# Altium integrated library Silicon Labs Isolation and Power.IntLib: 421 symbols (part 4 of 19)
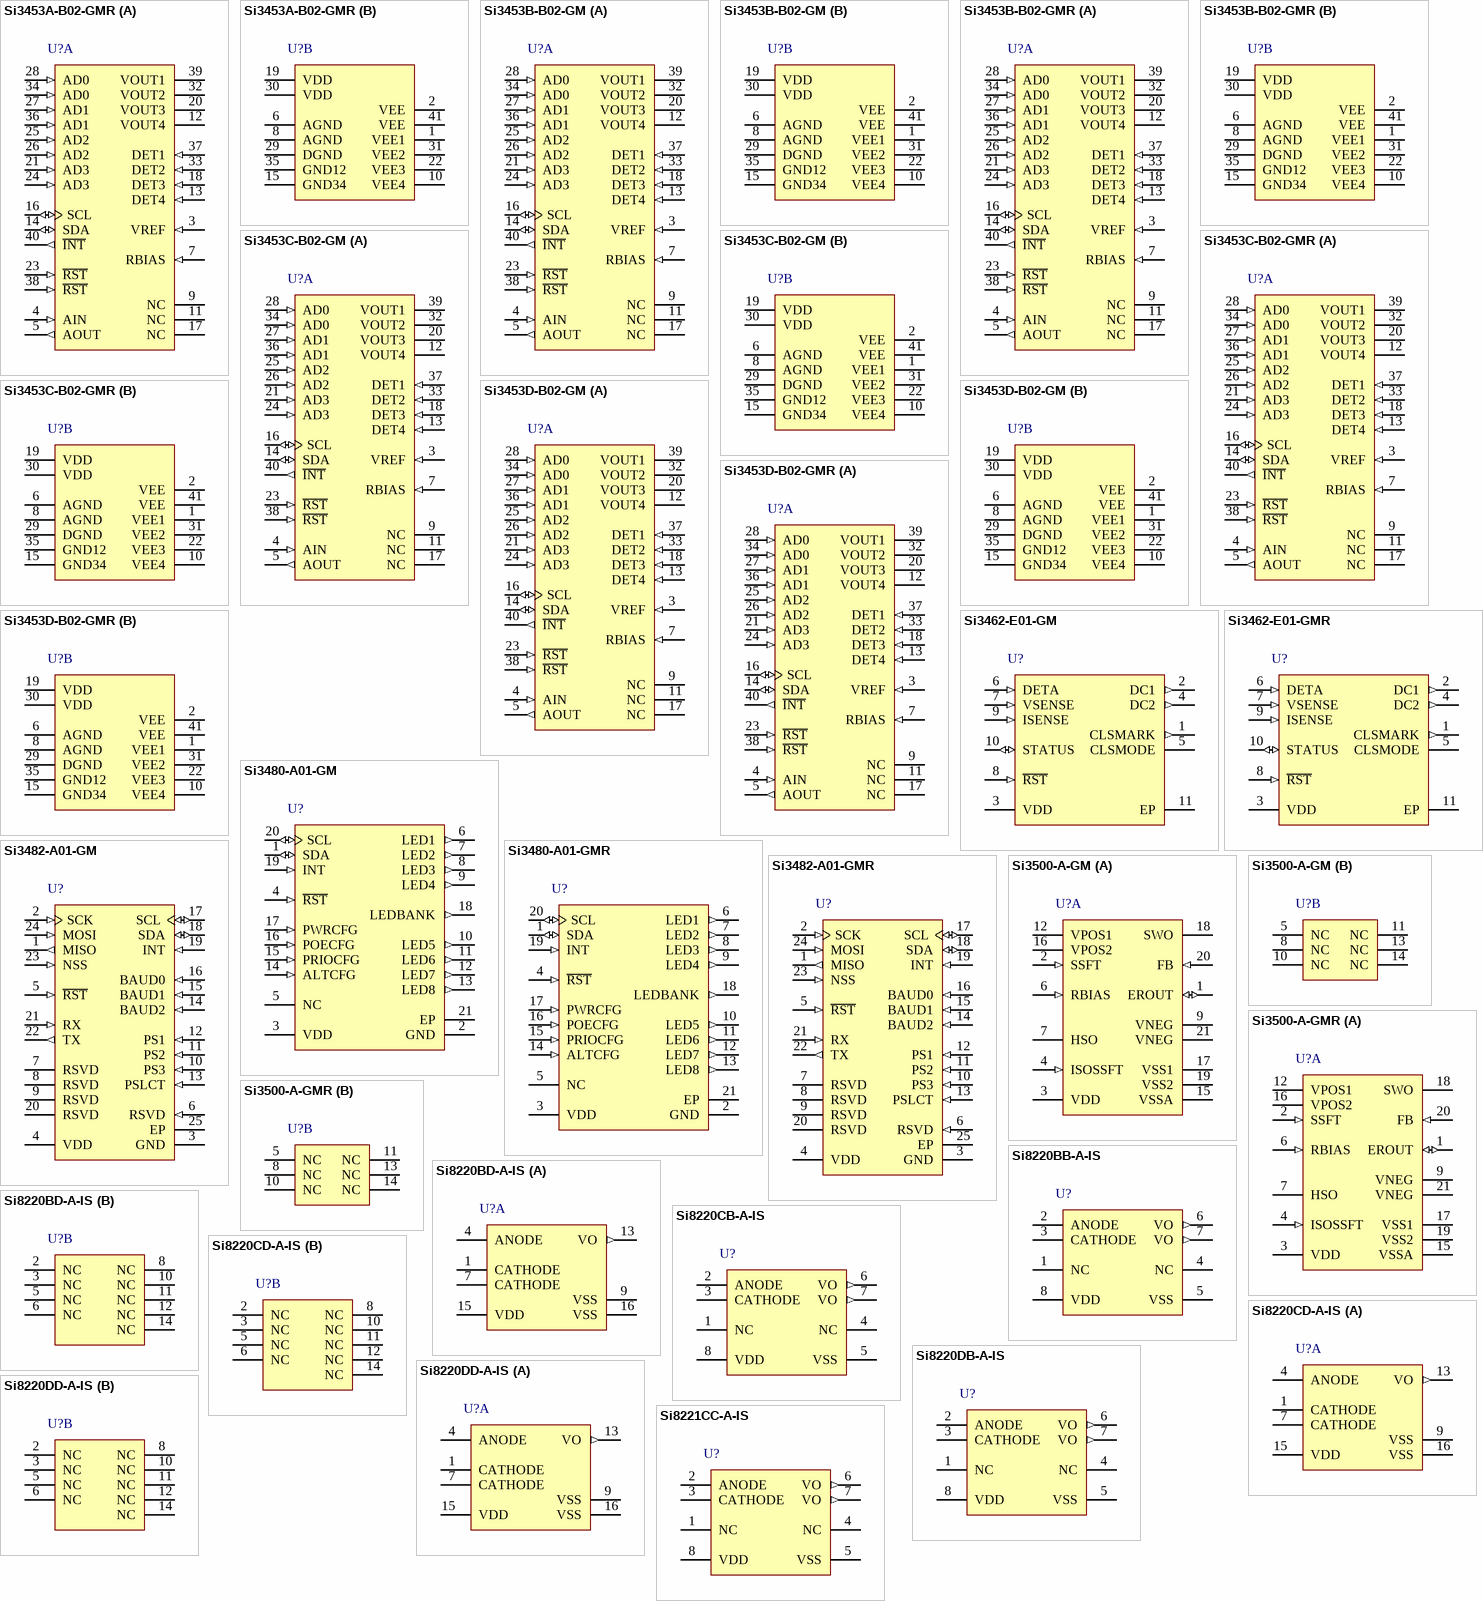
[diagram p17: symbols Si3453A-B02-GMR to Si8221CC-A-IS]

## Si8220DD-A-IS
designator U?
2.5 A ISOdrivers with Opto Input, 6.5 to 24 V Driver Supply, 5 kVRMS Isolation Rating, -40 to 125 degC, 16-pin SOIC; Manufacturer: Silicon Labs; PartNumber: Si8220DD-A-IS; 10kV surge: FALSE; Isolation Rating (Input-Output, kVrms): 5; Max. Prop. Delay (ns): 60; UVLO Voltage: 12.5 V; DatasheetVersion: Rev. 1.2; PackageReference: SOIC-16-WB; PackageDescription: 16-Pin Wide Body Plastic Small Outline, Body 10.3 x 7.5 mm, Pitch 1.27 mm; Supplier 1: Digi-Key; Supplier Part Number 1: SI8220DD-A-IS-ND; Supplier 2: Mouser; Supplier Part Number 2: 634-SI8220DD-A-IS; Driver Supply: 6.5 to 24 V; Overlap Protection & Dead Time Control: FALSE; Sub-Family: ISOdrivers; Mounting Technology: Surface Mount; Code_JEDEC: MS-013; ComponentLink1Description: Manufacturer URL; ComponentLink1URL: http://www.silabs.com/; ComponentLink2Description: Datasheet; ComponentLink2URL: http://www.silabs.com/Support%20Documents/TechnicalDocs/Si8220-21.pdf; ComponentLink3Description: Package Specification; ComponentLink3URL: https://www.silabs.com/Support%20Documents/TechnicalDocs/Si823x.pdf
footprint SLAB-SOIC-16-WB_N (SOIC, 16-Leads, Body 10.3x7.5mm, Pitch 1.27mm, IPC Medium Density)
footprint SLAB-SOIC-16-WB_L (SOIC, 16-Leads, Body 10.3x7.5mm, Pitch 1.27mm, IPC High Density)
footprint SLAB-SOIC-16-WB_M (SOIC, 16-Leads, Body 10.3x7.5mm, Pitch 1.27mm, IPC Low Density)
part A pins: 1 CATHODE "Cathode of LED emulator. VO follows the signal applied to ANODE with respect to this input.", 4 ANODE "Anode of LED emulator. VO follows the signal applied to this input with respect to the CATHODE input.", 7 CATHODE "Cathode of LED emulator. VO follows the signal applied to ANODE with respect to this input.", 9 VSS (power) "External MOSFET source connection and ground reference for VDD. This terminal is typically connected to ground but may be tied to a negative or positive voltage.", 13 VO (out) "Output signal.", 15 VDD (power) "Output-side power supply input referenced to VSS (24 V max).", 16 VSS (power) "External MOSFET source connection and ground reference for VDD. This terminal is typically connected to ground but may be tied to a negative or positive voltage."
part B pins: 2 NC "No connect.", 3 NC "No connect.", 5 NC "No connect.", 6 NC "No connect.", 8 NC "No connect.", 10 NC "No connect.", 11 NC "No connect.", 12 NC "No connect.", 14 NC "No connect."

## Si8221CC-A-IS
designator U?
0.5 A AMP ISOdrivers with Opto Input, 6.5 to 24 V Driver Supply, 3.75 kVRMS Isolation Rating, -40 to 125 degC, 8-pin SOIC; Manufacturer: Silicon Labs; PartNumber: Si8221CC-A-IS; 10kV surge: FALSE; Isolation Rating (Input-Output, kVrms): 3.75; Max. Prop. Delay (ns): 60; UVLO Voltage: 10 V; DatasheetVersion: Rev. 1.2; PackageReference: SOIC-8-NB; PackageDescription: 8-Pin Narrow Body Plastic Small Outline, Body 4.9 x 3.9 mm, Pitch 1.27 mm; Supplier 1: Digi-Key; Supplier Part Number 1: SI8221CC-A-IS-ND; Supplier 2: Mouser; Supplier Part Number 2: 634-SI8221CC-A-IS; Driver Supply: 6.5 to 24 V; Overlap Protection & Dead Time Control: FALSE; Sub-Family: ISOdrivers; Mounting Technology: Surface Mount; ComponentLink1Description: Manufacturer URL; ComponentLink1URL: http://www.silabs.com/; ComponentLink2Description: Datasheet; ComponentLink2URL: http://www.silabs.com/Support%20Documents/TechnicalDocs/Si8220-21.pdf; ComponentLink3Description: Package Specification; ComponentLink3URL: http://www.silabs.com/Support%20Documents/TechnicalDocs/Si8220-21.pdf
footprint SLAB-SOIC-8-NB_N (SOIC, 8-Leads, Body 5x4mm, Pitch 1.27mm, IPC Medium Density)
footprint SLAB-SOIC-8-NB_L (SOIC, 8-Leads, Body 5x4mm, Pitch 1.27mm, IPC High Density)
footprint SLAB-SOIC-8-NB_M (SOIC, 8-Leads, Body 5x4mm, Pitch 1.27mm, IPC Low Density)
pins: 1 NC "No connect.", 2 ANODE "Anode of LED emulator. VO follows the signal applied to this input with respect to the CATHODE input.", 3 CATHODE "Cathode of LED emulator. VO follows the signal applied to ANODE with respect to this input", 4 NC "No connect.", 5 VSS (power) "External MOSFET source connection and ground reference for VDD. This terminal is typically connected to ground but may be tied to a negative or positive voltage.", 6 VO (out) "Output signal.", 7 VO (out) "Output signal.", 8 VDD (power) "Output-side power supply input referenced to VSS (24 V max)."

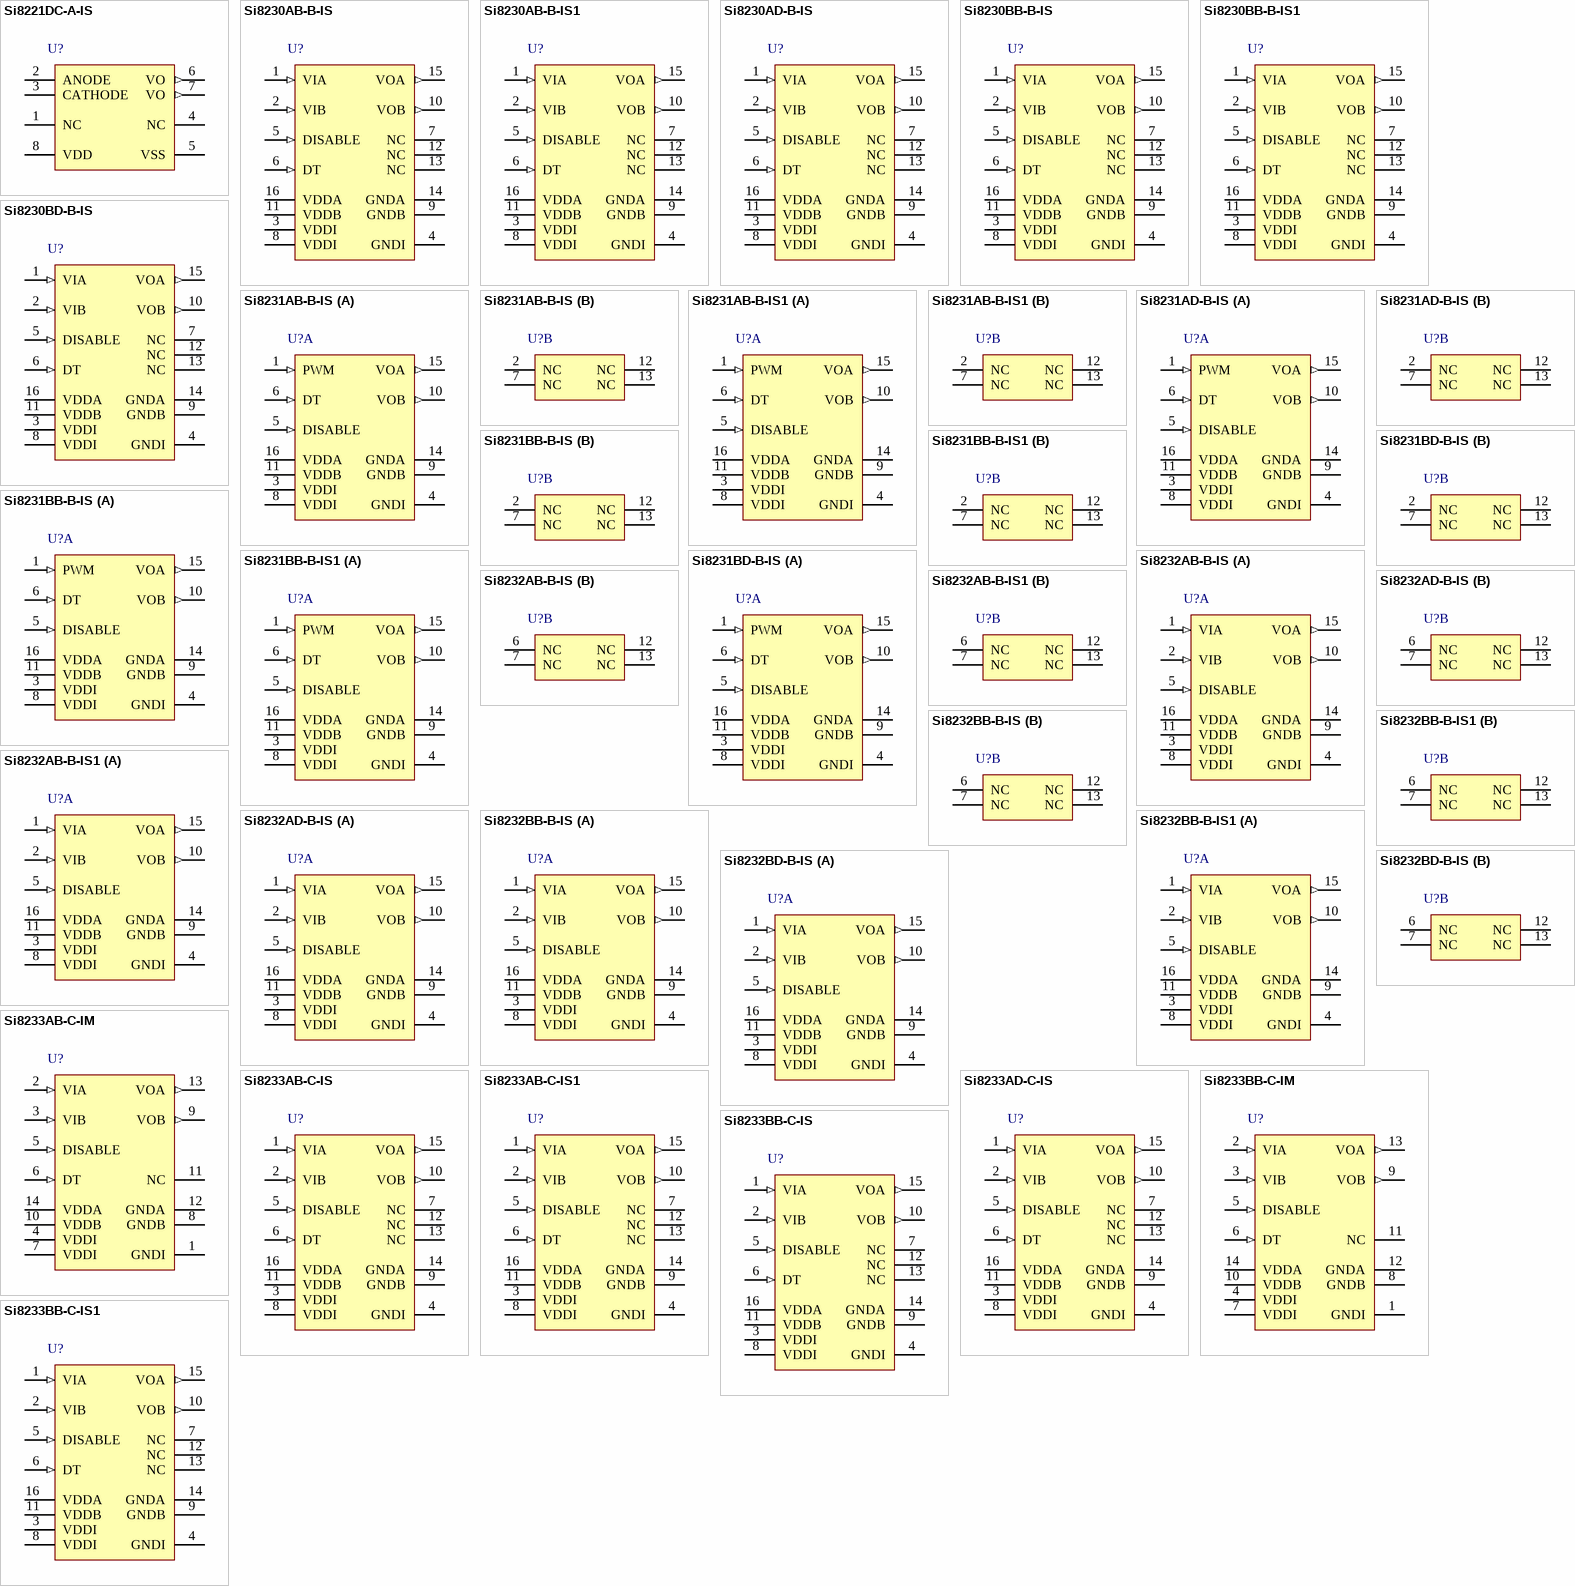
[diagram p2: symbols Si8221DC-A-IS to Si8233BB-C-IS1]

## Si8221DC-A-IS
designator U?
0.5 A AMP ISOdrivers with Opto Input, 6.5 to 24 V Driver Supply, 3.75 kVRMS Isolation Rating, -40 to 125 degC, 8-pin SOIC; Manufacturer: Silicon Labs; PartNumber: Si8221DC-A-IS; 10kV surge: FALSE; Isolation Rating (Input-Output, kVrms): 3.75; Max. Prop. Delay (ns): 60; UVLO Voltage: 12.5 V; DatasheetVersion: Rev. 1.2; PackageReference: SOIC-8-NB; PackageDescription: 8-Pin Narrow Body Plastic Small Outline, Body 4.9 x 3.9 mm, Pitch 1.27 mm; Supplier 1: Digi-Key; Supplier Part Number 1: SI8221DC-A-IS-ND; Supplier 2: Mouser; Supplier Part Number 2: 634-SI8221DC-A-IS; Driver Supply: 6.5 to 24 V; Overlap Protection & Dead Time Control: FALSE; Sub-Family: ISOdrivers; Mounting Technology: Surface Mount; ComponentLink1Description: Manufacturer URL; ComponentLink1URL: http://www.silabs.com/; ComponentLink2Description: Datasheet; ComponentLink2URL: http://www.silabs.com/Support%20Documents/TechnicalDocs/Si8220-21.pdf; ComponentLink3Description: Package Specification; ComponentLink3URL: http://www.silabs.com/Support%20Documents/TechnicalDocs/Si8220-21.pdf
footprint SLAB-SOIC-8-NB_N (SOIC, 8-Leads, Body 5x4mm, Pitch 1.27mm, IPC Medium Density)
footprint SLAB-SOIC-8-NB_L (SOIC, 8-Leads, Body 5x4mm, Pitch 1.27mm, IPC High Density)
footprint SLAB-SOIC-8-NB_M (SOIC, 8-Leads, Body 5x4mm, Pitch 1.27mm, IPC Low Density)
pins: 1 NC "No connect.", 2 ANODE "Anode of LED emulator. VO follows the signal applied to this input with respect to the CATHODE input.", 3 CATHODE "Cathode of LED emulator. VO follows the signal applied to ANODE with respect to this input", 4 NC "No connect.", 5 VSS (power) "External MOSFET source connection and ground reference for VDD. This terminal is typically connected to ground but may be tied to a negative or positive voltage.", 6 VO (out) "Output signal.", 7 VO (out) "Output signal.", 8 VDD (power) "Output-side power supply input referenced to VSS (24 V max)."

## Si8230AB-B-IS
designator U?
0.5 A ISOdrivers, 6.5 to 24 V Driver Supply, 2.5 kVRMS Isolation Rating, -40 to 125 degC, 16-pin SOIC; Manufacturer: Silicon Labs; PartNumber: Si8230AB-B-IS; 10kV surge: FALSE; Input Supply: 4.5 to 5.5 V; Isolation Rating (Input-Output, kVrms): 2.5; Max. Prop. Delay (ns): 60; Overlap Protection & Dead Time Control: TRUE; UVLO Voltage: 5 V; DatasheetVersion: Rev. 1.4; PackageReference: SOIC-16-WB; PackageDescription: 16-Pin Wide Body Plastic Small Outline, Body 10.3 x 7.5 mm, Pitch 1.27 mm; Supplier 1: Digi-Key; Supplier Part Number 1: SI8230AB-B-IS-ND; Supplier 2: Mouser; Supplier Part Number 2: 634-SI8230AB-B-IS; Driver Supply: 6.5 to 24 V; Input VDD: 4.5 to 5.5 V; Sub-Family: ISOdrivers; Mounting Technology: Surface Mount; Code_JEDEC: MS-013; ComponentLink1Description: Manufacturer URL; ComponentLink1URL: http://www.silabs.com/; ComponentLink2Description: Datasheet; ComponentLink2URL: https://www.silabs.com/Support%20Documents/TechnicalDocs/Si823x.pdf; ComponentLink3Description: Package Specification; ComponentLink3URL: https://www.silabs.com/Support%20Documents/TechnicalDocs/Si823x.pdf
footprint SLAB-SOIC-16-WB_N (SOIC, 16-Leads, Body 10.3x7.5mm, Pitch 1.27mm, IPC Medium Density)
footprint SLAB-SOIC-16-WB_L (SOIC, 16-Leads, Body 10.3x7.5mm, Pitch 1.27mm, IPC High Density)
footprint SLAB-SOIC-16-WB_M (SOIC, 16-Leads, Body 10.3x7.5mm, Pitch 1.27mm, IPC Low Density)
pins: 1 VIA (in) "Non-inverting logic input terminal for Driver A.", 2 VIB (in) "Non-inverting logic input terminal for Driver B.", 3 VDDI (power) "Input-side power supply terminal; connect to a source of 4.5 to 5.5 V.", 4 GNDI (power) "Input-side ground terminal.", 5 DISABLE (in) "Device Disable. When high, this input unconditionally drives outputs VOA, VOB LOW. It is strongly recommended that this input be connected to external logic level to avoid erroneous operation due to capacitive noise coupling.", 6 DT (in) "Dead time programming input. The value of the resistor connected from DT to ground sets the dead time between output transitions of VOA and VOB. Defaults to 1 ns dead time when connected to VDDI or left open (see "3.8. (See Datasheet)", 7 NC "No connection.", 8 VDDI (power) "Input-side power supply terminal; connect to a source of 4.5 to 5.5 V.", 9 GNDB (power) "Ground terminal for Driver B.", 10 VOB (out) "Driver B output", 11 VDDB (power) "Driver B power supply voltage terminal; connect to a source of 6.5 to 24 V.", 12 NC "No connection.", 13 NC "No connection.", 14 GNDA (power) "Ground terminal for Driver A.", 15 VOA (out) "Driver A output", 16 VDDA (power) "Driver A power supply voltage terminal; connect to a source of 6.5 to 24 V."

## Si8230AB-B-IS1
designator U?
0.5 A ISOdrivers, 6.5 to 24 V Driver Supply, 2.5 kVRMS Isolation Rating, -40 to 125 degC, 16-pin SOIC; Manufacturer: Silicon Labs; PartNumber: Si8230AB-B-IS1; 10kV surge: FALSE; Input Supply: 4.5 to 5.5 V; Isolation Rating (Input-Output, kVrms): 2.5; Max. Prop. Delay (ns): 60; Overlap Protection & Dead Time Control: TRUE; UVLO Voltage: 5 V; DatasheetVersion: Rev. 1.4; PackageReference: SOIC-16-NB; PackageDescription: 16-Pin Small-Outline Integrated Circuit, Body 9.9 x 3.9 mm, Pitch 1.27 mm; Supplier 1: Digi-Key; Supplier Part Number 1: 336-2446-5-ND; Supplier 2: Mouser; Supplier Part Number 2: 634-SI8230AB-B-IS1; Driver Supply: 6.5 to 24 V; Input VDD: 4.5 to 5.5 V; Sub-Family: ISOdrivers; Mounting Technology: Surface Mount; Code_JEDEC: MS-012; Code_IPC: J-STD-020; ComponentLink1Description: Manufacturer URL; ComponentLink1URL: http://www.silabs.com/; ComponentLink2Description: Datasheet; ComponentLink2URL: https://www.silabs.com/Support%20Documents/TechnicalDocs/Si823x.pdf; ComponentLink3Description: Package Specification; ComponentLink3URL: http://www.silabs.com/Support%20Documents/TechnicalDocs/si2401.pdf
footprint SLAB-SOIC-16-NB_N (SOIC, 16-Leads, Body 9.9x3.9mm, Pitch 1.27mm, IPC Medium Density)
footprint SLAB-SOIC-16-NB_L (SOIC, 16-Leads, Body 9.9x3.9mm, Pitch 1.27mm, IPC High Density)
footprint SLAB-SOIC-16-NB_M (SOIC, 16-Leads, Body 9.9x3.9mm, Pitch 1.27mm, IPC Low Density)
pins: 1 VIA (in) "Non-inverting logic input terminal for Driver A.", 2 VIB (in) "Non-inverting logic input terminal for Driver B.", 3 VDDI (power) "Input-side power supply terminal; connect to a source of 4.5 to 5.5 V.", 4 GNDI (power) "Input-side ground terminal.", 5 DISABLE (in) "Device Disable. When high, this input unconditionally drives outputs VOA, VOB LOW. It is strongly recommended that this input be connected to external logic level to avoid erroneous operation due to capacitive noise coupling.", 6 DT (in) "Dead time programming input. The value of the resistor connected from DT to ground sets the dead time between output transitions of VOA and VOB. Defaults to 1 ns dead time when connected to VDDI or left open (see "3.8. (See Datasheet)", 7 NC "No connection.", 8 VDDI (power) "Input-side power supply terminal; connect to a source of 4.5 to 5.5 V.", 9 GNDB (power) "Ground terminal for Driver B.", 10 VOB (out) "Driver B output", 11 VDDB (power) "Driver B power supply voltage terminal; connect to a source of 6.5 to 24 V.", 12 NC "No connection.", 13 NC "No connection.", 14 GNDA (power) "Ground terminal for Driver A.", 15 VOA (out) "Driver A output", 16 VDDA (power) "Driver A power supply voltage terminal; connect to a source of 6.5 to 24 V."

## Si8230AD-B-IS
designator U?
0.5 A ISOdrivers, 6.5 to 24 V Driver Supply, 5 kVRMS Isolation Rating, -40 to 125 degC, 16-pin SOIC; Manufacturer: Silicon Labs; PartNumber: Si8230AD-B-IS; 10kV surge: FALSE; Input Supply: 4.5 to 5.5 V; Isolation Rating (Input-Output, kVrms): 5; Max. Prop. Delay (ns): 60; Overlap Protection & Dead Time Control: TRUE; UVLO Voltage: 5 V; DatasheetVersion: Rev. 1.4; PackageReference: SOIC-16-WB; PackageDescription: 16-Pin Wide Body Plastic Small Outline, Body 10.3 x 7.5 mm, Pitch 1.27 mm; Supplier 1: Digi-Key; Supplier Part Number 1: SI8230AD-B-IS-ND; Supplier 2: Mouser; Supplier Part Number 2: 634-SI8230AD-B-IS; Driver Supply: 6.5 to 24 V; Input VDD: 4.5 to 5.5 V; Sub-Family: ISOdrivers; Mounting Technology: Surface Mount; Code_JEDEC: MS-013; ComponentLink1Description: Manufacturer URL; ComponentLink1URL: http://www.silabs.com/; ComponentLink2Description: Datasheet; ComponentLink2URL: https://www.silabs.com/Support%20Documents/TechnicalDocs/Si823x.pdf; ComponentLink3Description: Package Specification; ComponentLink3URL: https://www.silabs.com/Support%20Documents/TechnicalDocs/Si823x.pdf
footprint SLAB-SOIC-16-WB_N (SOIC, 16-Leads, Body 10.3x7.5mm, Pitch 1.27mm, IPC Medium Density)
footprint SLAB-SOIC-16-WB_L (SOIC, 16-Leads, Body 10.3x7.5mm, Pitch 1.27mm, IPC High Density)
footprint SLAB-SOIC-16-WB_M (SOIC, 16-Leads, Body 10.3x7.5mm, Pitch 1.27mm, IPC Low Density)
pins: 1 VIA (in) "Non-inverting logic input terminal for Driver A.", 2 VIB (in) "Non-inverting logic input terminal for Driver B.", 3 VDDI (power) "Input-side power supply terminal; connect to a source of 4.5 to 5.5 V.", 4 GNDI (power) "Input-side ground terminal.", 5 DISABLE (in) "Device Disable. When high, this input unconditionally drives outputs VOA, VOB LOW. It is strongly recommended that this input be connected to external logic level to avoid erroneous operation due to capacitive noise coupling.", 6 DT (in) "Dead time programming input. The value of the resistor connected from DT to ground sets the dead time between output transitions of VOA and VOB. Defaults to 1 ns dead time when connected to VDDI or left open (see "3.8. (See Datasheet)", 7 NC "No connection.", 8 VDDI (power) "Input-side power supply terminal; connect to a source of 4.5 to 5.5 V.", 9 GNDB (power) "Ground terminal for Driver B.", 10 VOB (out) "Driver B output", 11 VDDB (power) "Driver B power supply voltage terminal; connect to a source of 6.5 to 24 V.", 12 NC "No connection.", 13 NC "No connection.", 14 GNDA (power) "Ground terminal for Driver A.", 15 VOA (out) "Driver A output", 16 VDDA (power) "Driver A power supply voltage terminal; connect to a source of 6.5 to 24 V."

## Si8230BB-B-IS
designator U?
0.5 A ISOdrivers, 6.5 to 24 V Driver Supply, 2.5 kVRMS Isolation Rating, -40 to 125 degC, 16-pin SOIC; Manufacturer: Silicon Labs; PartNumber: Si8230BB-B-IS; 10kV surge: FALSE; Input Supply: 4.5 to 5.5 V; Isolation Rating (Input-Output, kVrms): 2.5; Max. Prop. Delay (ns): 60; Overlap Protection & Dead Time Control: TRUE; UVLO Voltage: 8 V; DatasheetVersion: Rev. 1.4; PackageReference: SOIC-16-WB; PackageDescription: 16-Pin Wide Body Plastic Small Outline, Body 10.3 x 7.5 mm, Pitch 1.27 mm; Supplier 1: Digi-Key; Supplier Part Number 1: 336-1916-5-ND; Supplier 2: Mouser; Supplier Part Number 2: 634-SI8230BB-B-IS; Driver Supply: 6.5 to 24 V; Input VDD: 4.5 to 5.5 V; Sub-Family: ISOdrivers; Mounting Technology: Surface Mount; Code_JEDEC: MS-013; ComponentLink1Description: Manufacturer URL; ComponentLink1URL: http://www.silabs.com/; ComponentLink2Description: Datasheet; ComponentLink2URL: https://www.silabs.com/Support%20Documents/TechnicalDocs/Si823x.pdf; ComponentLink3Description: Package Specification; ComponentLink3URL: https://www.silabs.com/Support%20Documents/TechnicalDocs/Si823x.pdf
footprint SLAB-SOIC-16-WB_N (SOIC, 16-Leads, Body 10.3x7.5mm, Pitch 1.27mm, IPC Medium Density)
footprint SLAB-SOIC-16-WB_L (SOIC, 16-Leads, Body 10.3x7.5mm, Pitch 1.27mm, IPC High Density)
footprint SLAB-SOIC-16-WB_M (SOIC, 16-Leads, Body 10.3x7.5mm, Pitch 1.27mm, IPC Low Density)
pins: 1 VIA (in) "Non-inverting logic input terminal for Driver A.", 2 VIB (in) "Non-inverting logic input terminal for Driver B.", 3 VDDI (power) "Input-side power supply terminal; connect to a source of 4.5 to 5.5 V.", 4 GNDI (power) "Input-side ground terminal.", 5 DISABLE (in) "Device Disable. When high, this input unconditionally drives outputs VOA, VOB LOW. It is strongly recommended that this input be connected to external logic level to avoid erroneous operation due to capacitive noise coupling.", 6 DT (in) "Dead time programming input. The value of the resistor connected from DT to ground sets the dead time between output transitions of VOA and VOB. Defaults to 1 ns dead time when connected to VDDI or left open (see "3.8. (See Datasheet)", 7 NC "No connection.", 8 VDDI (power) "Input-side power supply terminal; connect to a source of 4.5 to 5.5 V.", 9 GNDB (power) "Ground terminal for Driver B.", 10 VOB (out) "Driver B output", 11 VDDB (power) "Driver B power supply voltage terminal; connect to a source of 6.5 to 24 V.", 12 NC "No connection.", 13 NC "No connection.", 14 GNDA (power) "Ground terminal for Driver A.", 15 VOA (out) "Driver A output", 16 VDDA (power) "Driver A power supply voltage terminal; connect to a source of 6.5 to 24 V."

## Si8230BB-B-IS1
designator U?
0.5 A ISOdrivers, 6.5 to 24 V Driver Supply, 2.5 kVRMS Isolation Rating, -40 to 125 degC, 16-pin SOIC; Manufacturer: Silicon Labs; PartNumber: Si8230BB-B-IS1; 10kV surge: FALSE; Input Supply: 4.5 to 5.5 V; Isolation Rating (Input-Output, kVrms): 2.5; Max. Prop. Delay (ns): 60; Overlap Protection & Dead Time Control: TRUE; UVLO Voltage: 8 V; DatasheetVersion: Rev. 1.4; PackageReference: SOIC-16-NB; PackageDescription: 16-Pin Small-Outline Integrated Circuit, Body 9.9 x 3.9 mm, Pitch 1.27 mm; Supplier 1: Digi-Key; Supplier Part Number 1: 336-1915-5-ND; Supplier 2: Mouser; Supplier Part Number 2: 634-SI8230BB-B-IS1; Driver Supply: 6.5 to 24 V; Input VDD: 4.5 to 5.5 V; Sub-Family: ISOdrivers; Mounting Technology: Surface Mount; Code_JEDEC: MS-012; Code_IPC: J-STD-020; ComponentLink1Description: Manufacturer URL; ComponentLink1URL: http://www.silabs.com/; ComponentLink2Description: Datasheet; ComponentLink2URL: https://www.silabs.com/Support%20Documents/TechnicalDocs/Si823x.pdf; ComponentLink3Description: Package Specification; ComponentLink3URL: http://www.silabs.com/Support%20Documents/TechnicalDocs/si2401.pdf
footprint SLAB-SOIC-16-NB_N (SOIC, 16-Leads, Body 9.9x3.9mm, Pitch 1.27mm, IPC Medium Density)
footprint SLAB-SOIC-16-NB_L (SOIC, 16-Leads, Body 9.9x3.9mm, Pitch 1.27mm, IPC High Density)
footprint SLAB-SOIC-16-NB_M (SOIC, 16-Leads, Body 9.9x3.9mm, Pitch 1.27mm, IPC Low Density)
pins: 1 VIA (in) "Non-inverting logic input terminal for Driver A.", 2 VIB (in) "Non-inverting logic input terminal for Driver B.", 3 VDDI (power) "Input-side power supply terminal; connect to a source of 4.5 to 5.5 V.", 4 GNDI (power) "Input-side ground terminal.", 5 DISABLE (in) "Device Disable. When high, this input unconditionally drives outputs VOA, VOB LOW. It is strongly recommended that this input be connected to external logic level to avoid erroneous operation due to capacitive noise coupling.", 6 DT (in) "Dead time programming input. The value of the resistor connected from DT to ground sets the dead time between output transitions of VOA and VOB. Defaults to 1 ns dead time when connected to VDDI or left open (see "3.8. (See Datasheet)", 7 NC "No connection.", 8 VDDI (power) "Input-side power supply terminal; connect to a source of 4.5 to 5.5 V.", 9 GNDB (power) "Ground terminal for Driver B.", 10 VOB (out) "Driver B output", 11 VDDB (power) "Driver B power supply voltage terminal; connect to a source of 6.5 to 24 V.", 12 NC "No connection.", 13 NC "No connection.", 14 GNDA (power) "Ground terminal for Driver A.", 15 VOA (out) "Driver A output", 16 VDDA (power) "Driver A power supply voltage terminal; connect to a source of 6.5 to 24 V."

## Si8230BD-B-IS
designator U?
0.5 A ISOdrivers, 6.5 to 24 V Driver Supply, 5 kVRMS Isolation Rating, -40 to 125 degC, 16-pin SOIC; Manufacturer: Silicon Labs; PartNumber: Si8230BD-B-IS; 10kV surge: FALSE; Input Supply: 4.5 to 5.5 V; Isolation Rating (Input-Output, kVrms): 5; Max. Prop. Delay (ns): 60; Overlap Protection & Dead Time Control: TRUE; UVLO Voltage: 8 V; DatasheetVersion: Rev. 1.4; PackageReference: SOIC-16-WB; PackageDescription: 16-Pin Wide Body Plastic Small Outline, Body 10.3 x 7.5 mm, Pitch 1.27 mm; Supplier 1: Digi-Key; Supplier Part Number 1: 336-1914-5-ND; Supplier 2: Mouser; Supplier Part Number 2: 634-SI8230BD-B-IS; Driver Supply: 6.5 to 24 V; Input VDD: 4.5 to 5.5 V; Sub-Family: ISOdrivers; Mounting Technology: Surface Mount; Code_JEDEC: MS-013; ComponentLink1Description: Manufacturer URL; ComponentLink1URL: http://www.silabs.com/; ComponentLink2Description: Datasheet; ComponentLink2URL: https://www.silabs.com/Support%20Documents/TechnicalDocs/Si823x.pdf; ComponentLink3Description: Package Specification; ComponentLink3URL: https://www.silabs.com/Support%20Documents/TechnicalDocs/Si823x.pdf
footprint SLAB-SOIC-16-WB_N (SOIC, 16-Leads, Body 10.3x7.5mm, Pitch 1.27mm, IPC Medium Density)
footprint SLAB-SOIC-16-WB_L (SOIC, 16-Leads, Body 10.3x7.5mm, Pitch 1.27mm, IPC High Density)
footprint SLAB-SOIC-16-WB_M (SOIC, 16-Leads, Body 10.3x7.5mm, Pitch 1.27mm, IPC Low Density)
pins: 1 VIA (in) "Non-inverting logic input terminal for Driver A.", 2 VIB (in) "Non-inverting logic input terminal for Driver B.", 3 VDDI (power) "Input-side power supply terminal; connect to a source of 4.5 to 5.5 V.", 4 GNDI (power) "Input-side ground terminal.", 5 DISABLE (in) "Device Disable. When high, this input unconditionally drives outputs VOA, VOB LOW. It is strongly recommended that this input be connected to external logic level to avoid erroneous operation due to capacitive noise coupling.", 6 DT (in) "Dead time programming input. The value of the resistor connected from DT to ground sets the dead time between output transitions of VOA and VOB. Defaults to 1 ns dead time when connected to VDDI or left open (see "3.8. (See Datasheet)", 7 NC "No connection.", 8 VDDI (power) "Input-side power supply terminal; connect to a source of 4.5 to 5.5 V.", 9 GNDB (power) "Ground terminal for Driver B.", 10 VOB (out) "Driver B output", 11 VDDB (power) "Driver B power supply voltage terminal; connect to a source of 6.5 to 24 V.", 12 NC "No connection.", 13 NC "No connection.", 14 GNDA (power) "Ground terminal for Driver A.", 15 VOA (out) "Driver A output", 16 VDDA (power) "Driver A power supply voltage terminal; connect to a source of 6.5 to 24 V."

## Si8231AB-B-IS
designator U?
0.5 A ISOdrivers, 6.5 to 24 V Driver Supply, 2.5 kVRMS Isolation Rating, -40 to 125 degC, 16-pin SOIC; Manufacturer: Silicon Labs; PartNumber: Si8231AB-B-IS; 10kV surge: FALSE; Input Supply: 4.5 to 5.5 V; Isolation Rating (Input-Output, kVrms): 2.5; Max. Prop. Delay (ns): 60; Overlap Protection & Dead Time Control: TRUE; UVLO Voltage: 5 V; DatasheetVersion: Rev. 1.4; PackageReference: SOIC-16-WB; PackageDescription: 16-Pin Wide Body Plastic Small Outline, Body 10.3 x 7.5 mm, Pitch 1.27 mm; Supplier 1: Digi-Key; Supplier Part Number 1: SI8231AB-B-IS-ND; Supplier 2: Mouser; Supplier Part Number 2: 634-SI8231AB-B-IS; Driver Supply: 6.5 to 24 V; Input VDD: 4.5 to 5.5 V; Sub-Family: ISOdrivers; Mounting Technology: Surface Mount; Code_JEDEC: MS-013; ComponentLink1Description: Manufacturer URL; ComponentLink1URL: http://www.silabs.com/; ComponentLink2Description: Datasheet; ComponentLink2URL: https://www.silabs.com/Support%20Documents/TechnicalDocs/Si823x.pdf; ComponentLink3Description: Package Specification; ComponentLink3URL: https://www.silabs.com/Support%20Documents/TechnicalDocs/Si823x.pdf
footprint SLAB-SOIC-16-WB_N (SOIC, 16-Leads, Body 10.3x7.5mm, Pitch 1.27mm, IPC Medium Density)
footprint SLAB-SOIC-16-WB_L (SOIC, 16-Leads, Body 10.3x7.5mm, Pitch 1.27mm, IPC High Density)
footprint SLAB-SOIC-16-WB_M (SOIC, 16-Leads, Body 10.3x7.5mm, Pitch 1.27mm, IPC Low Density)
part A pins: 1 PWM (in) "PWM input.", 3 VDDI (power) "Input-side power supply terminal; connect to a source of 4.5 to 5.5 V.", 4 GNDI (power) "Input-side ground terminal.", 5 DISABLE (in) "Device Disable. When high, this input unconditionally drives outputs VOA, VOB LOW. It is strongly recommended that this input be connected to external logic level to avoid erroneous operation due to capacitive noise coupling.", 6 DT (in) "Dead time programming input. The value of the resistor connected from DT to ground sets the dead time between output transitions of VOA and VOB. Defaults to 1 ns dead time when connected to VDDI or left open (see "3.8. (See Datasheet)", 8 VDDI (power) "Input-side power supply terminal; connect to a source of 4.5 to 5.5 V.", 9 GNDB (power) "Ground terminal for Driver B.", 10 VOB (out) "Driver B output (low-side driver).", 11 VDDB (power) "Driver B power supply voltage terminal; connect to a source of 6.5 to 24 V.", 14 GNDA (power) "Ground terminal for Driver A.", 15 VOA (out) "Driver A output (high-side driver).", 16 VDDA (power) "Driver A power supply voltage terminal; connect to a source of 6.5 to 24 V."
part B pins: 2 NC "No connection.", 7 NC "No connection.", 12 NC "No connection.", 13 NC "No connection."

## Si8231AB-B-IS1
designator U?
0.5 A ISOdrivers, 6.5 to 24 V Driver Supply, 2.5 kVRMS Isolation Rating, -40 to 125 degC, 16-pin SOIC; Manufacturer: Silicon Labs; PartNumber: Si8231AB-B-IS1; 10kV surge: FALSE; Input Supply: 4.5 to 5.5 V; Isolation Rating (Input-Output, kVrms): 2.5; Max. Prop. Delay (ns): 60; Overlap Protection & Dead Time Control: TRUE; UVLO Voltage: 5 V; DatasheetVersion: Rev. 1.4; PackageReference: SOIC-16-NB; PackageDescription: 16-Pin Small-Outline Integrated Circuit, Body 9.9 x 3.9 mm, Pitch 1.27 mm; Supplier 1: Digi-Key; Supplier Part Number 1: SI8231AB-B-IS1-ND; Supplier 2: Mouser; Supplier Part Number 2: 634-SI8231AB-B-IS1; Driver Supply: 6.5 to 24 V; Input VDD: 4.5 to 5.5 V; Sub-Family: ISOdrivers; Mounting Technology: Surface Mount; Code_JEDEC: MS-012; Code_IPC: J-STD-020; ComponentLink1Description: Manufacturer URL; ComponentLink1URL: http://www.silabs.com/; ComponentLink2Description: Datasheet; ComponentLink2URL: https://www.silabs.com/Support%20Documents/TechnicalDocs/Si823x.pdf; ComponentLink3Description: Package Specification; ComponentLink3URL: http://www.silabs.com/Support%20Documents/TechnicalDocs/si2401.pdf
footprint SLAB-SOIC-16-NB_N (SOIC, 16-Leads, Body 9.9x3.9mm, Pitch 1.27mm, IPC Medium Density)
footprint SLAB-SOIC-16-NB_L (SOIC, 16-Leads, Body 9.9x3.9mm, Pitch 1.27mm, IPC High Density)
footprint SLAB-SOIC-16-NB_M (SOIC, 16-Leads, Body 9.9x3.9mm, Pitch 1.27mm, IPC Low Density)
part A pins: 1 PWM (in) "PWM input.", 3 VDDI (power) "Input-side power supply terminal; connect to a source of 4.5 to 5.5 V.", 4 GNDI (power) "Input-side ground terminal.", 5 DISABLE (in) "Device Disable. When high, this input unconditionally drives outputs VOA, VOB LOW. It is strongly recommended that this input be connected to external logic level to avoid erroneous operation due to capacitive noise coupling.", 6 DT (in) "Dead time programming input. The value of the resistor connected from DT to ground sets the dead time between output transitions of VOA and VOB. Defaults to 1 ns dead time when connected to VDDI or left open (see "3.8. (See Datasheet)", 8 VDDI (power) "Input-side power supply terminal; connect to a source of 4.5 to 5.5 V.", 9 GNDB (power) "Ground terminal for Driver B.", 10 VOB (out) "Driver B output (low-side driver).", 11 VDDB (power) "Driver B power supply voltage terminal; connect to a source of 6.5 to 24 V.", 14 GNDA (power) "Ground terminal for Driver A.", 15 VOA (out) "Driver A output (high-side driver).", 16 VDDA (power) "Driver A power supply voltage terminal; connect to a source of 6.5 to 24 V."
part B pins: 2 NC "No connection.", 7 NC "No connection.", 12 NC "No connection.", 13 NC "No connection."

## Si8231AD-B-IS
designator U?
0.5 A ISOdrivers, 6.5 to 24 V Driver Supply, 5 kVRMS Isolation Rating, -40 to 125 degC, 16-pin SOIC; Manufacturer: Silicon Labs; PartNumber: Si8231AD-B-IS; 10kV surge: FALSE; Input Supply: 4.5 to 5.5 V; Isolation Rating (Input-Output, kVrms): 5; Max. Prop. Delay (ns): 60; Overlap Protection & Dead Time Control: TRUE; UVLO Voltage: 5 V; DatasheetVersion: Rev. 1.4; PackageReference: SOIC-16-WB; PackageDescription: 16-Pin Wide Body Plastic Small Outline, Body 10.3 x 7.5 mm, Pitch 1.27 mm; Supplier 1: Digi-Key; Supplier Part Number 1: SI8231AD-B-IS-ND; Supplier 2: Mouser; Supplier Part Number 2: 634-SI8231AD-B-IS; Driver Supply: 6.5 to 24 V; Input VDD: 4.5 to 5.5 V; Sub-Family: ISOdrivers; Mounting Technology: Surface Mount; Code_JEDEC: MS-013; ComponentLink1Description: Manufacturer URL; ComponentLink1URL: http://www.silabs.com/; ComponentLink2Description: Datasheet; ComponentLink2URL: https://www.silabs.com/Support%20Documents/TechnicalDocs/Si823x.pdf; ComponentLink3Description: Package Specification; ComponentLink3URL: https://www.silabs.com/Support%20Documents/TechnicalDocs/Si823x.pdf
footprint SLAB-SOIC-16-WB_N (SOIC, 16-Leads, Body 10.3x7.5mm, Pitch 1.27mm, IPC Medium Density)
footprint SLAB-SOIC-16-WB_L (SOIC, 16-Leads, Body 10.3x7.5mm, Pitch 1.27mm, IPC High Density)
footprint SLAB-SOIC-16-WB_M (SOIC, 16-Leads, Body 10.3x7.5mm, Pitch 1.27mm, IPC Low Density)
part A pins: 1 PWM (in) "PWM input.", 3 VDDI (power) "Input-side power supply terminal; connect to a source of 4.5 to 5.5 V.", 4 GNDI (power) "Input-side ground terminal.", 5 DISABLE (in) "Device Disable. When high, this input unconditionally drives outputs VOA, VOB LOW. It is strongly recommended that this input be connected to external logic level to avoid erroneous operation due to capacitive noise coupling.", 6 DT (in) "Dead time programming input. The value of the resistor connected from DT to ground sets the dead time between output transitions of VOA and VOB. Defaults to 1 ns dead time when connected to VDDI or left open (see "3.8. (See Datasheet)", 8 VDDI (power) "Input-side power supply terminal; connect to a source of 4.5 to 5.5 V.", 9 GNDB (power) "Ground terminal for Driver B.", 10 VOB (out) "Driver B output (low-side driver).", 11 VDDB (power) "Driver B power supply voltage terminal; connect to a source of 6.5 to 24 V.", 14 GNDA (power) "Ground terminal for Driver A.", 15 VOA (out) "Driver A output (high-side driver).", 16 VDDA (power) "Driver A power supply voltage terminal; connect to a source of 6.5 to 24 V."
part B pins: 2 NC "No connection.", 7 NC "No connection.", 12 NC "No connection.", 13 NC "No connection."

## Si8231BB-B-IS
designator U?
0.5 A ISOdrivers, 6.5 to 24 V Driver Supply, 2.5 kVRMS Isolation Rating, -40 to 125 degC, 16-pin SOIC; Manufacturer: Silicon Labs; PartNumber: Si8231BB-B-IS; 10kV surge: FALSE; Input Supply: 4.5 to 5.5 V; Isolation Rating (Input-Output, kVrms): 2.5; Max. Prop. Delay (ns): 60; Overlap Protection & Dead Time Control: TRUE; UVLO Voltage: 8 V; DatasheetVersion: Rev. 1.4; PackageReference: SOIC-16-WB; PackageDescription: 16-Pin Wide Body Plastic Small Outline, Body 10.3 x 7.5 mm, Pitch 1.27 mm; Supplier 1: Digi-Key; Supplier Part Number 1: 336-1913-5-ND; Supplier 2: Mouser; Supplier Part Number 2: 634-SI8231BB-B-IS; Driver Supply: 6.5 to 24 V; Input VDD: 4.5 to 5.5 V; Sub-Family: ISOdrivers; Mounting Technology: Surface Mount; Code_JEDEC: MS-013; ComponentLink1Description: Manufacturer URL; ComponentLink1URL: http://www.silabs.com/; ComponentLink2Description: Datasheet; ComponentLink2URL: https://www.silabs.com/Support%20Documents/TechnicalDocs/Si823x.pdf; ComponentLink3Description: Package Specification; ComponentLink3URL: https://www.silabs.com/Support%20Documents/TechnicalDocs/Si823x.pdf
footprint SLAB-SOIC-16-WB_N (SOIC, 16-Leads, Body 10.3x7.5mm, Pitch 1.27mm, IPC Medium Density)
footprint SLAB-SOIC-16-WB_L (SOIC, 16-Leads, Body 10.3x7.5mm, Pitch 1.27mm, IPC High Density)
footprint SLAB-SOIC-16-WB_M (SOIC, 16-Leads, Body 10.3x7.5mm, Pitch 1.27mm, IPC Low Density)
part A pins: 1 PWM (in) "PWM input.", 3 VDDI (power) "Input-side power supply terminal; connect to a source of 4.5 to 5.5 V.", 4 GNDI (power) "Input-side ground terminal.", 5 DISABLE (in) "Device Disable. When high, this input unconditionally drives outputs VOA, VOB LOW. It is strongly recommended that this input be connected to external logic level to avoid erroneous operation due to capacitive noise coupling.", 6 DT (in) "Dead time programming input. The value of the resistor connected from DT to ground sets the dead time between output transitions of VOA and VOB. Defaults to 1 ns dead time when connected to VDDI or left open (see "3.8. (See Datasheet)", 8 VDDI (power) "Input-side power supply terminal; connect to a source of 4.5 to 5.5 V.", 9 GNDB (power) "Ground terminal for Driver B.", 10 VOB (out) "Driver B output (low-side driver).", 11 VDDB (power) "Driver B power supply voltage terminal; connect to a source of 6.5 to 24 V.", 14 GNDA (power) "Ground terminal for Driver A.", 15 VOA (out) "Driver A output (high-side driver).", 16 VDDA (power) "Driver A power supply voltage terminal; connect to a source of 6.5 to 24 V."
part B pins: 2 NC "No connection.", 7 NC "No connection.", 12 NC "No connection.", 13 NC "No connection."

## Si8231BB-B-IS1
designator U?
0.5 A ISOdrivers, 6.5 to 24 V Driver Supply, 2.5 kVRMS Isolation Rating, -40 to 125 degC, 16-pin SOIC; Manufacturer: Silicon Labs; PartNumber: Si8231BB-B-IS1; 10kV surge: FALSE; Input Supply: 4.5 to 5.5 V; Isolation Rating (Input-Output, kVrms): 2.5; Max. Prop. Delay (ns): 60; Overlap Protection & Dead Time Control: TRUE; UVLO Voltage: 8 V; DatasheetVersion: Rev. 1.4; PackageReference: SOIC-16-NB; PackageDescription: 16-Pin Small-Outline Integrated Circuit, Body 9.9 x 3.9 mm, Pitch 1.27 mm; Supplier 1: Digi-Key; Supplier Part Number 1: 336-1912-5-ND; Supplier 2: Mouser; Supplier Part Number 2: 634-SI8231BB-B-IS1; Driver Supply: 6.5 to 24 V; Input VDD: 4.5 to 5.5 V; Sub-Family: ISOdrivers; Mounting Technology: Surface Mount; Code_JEDEC: MS-012; Code_IPC: J-STD-020; ComponentLink1Description: Manufacturer URL; ComponentLink1URL: http://www.silabs.com/; ComponentLink2Description: Datasheet; ComponentLink2URL: https://www.silabs.com/Support%20Documents/TechnicalDocs/Si823x.pdf; ComponentLink3Description: Package Specification; ComponentLink3URL: http://www.silabs.com/Support%20Documents/TechnicalDocs/si2401.pdf
footprint SLAB-SOIC-16-NB_N (SOIC, 16-Leads, Body 9.9x3.9mm, Pitch 1.27mm, IPC Medium Density)
footprint SLAB-SOIC-16-NB_L (SOIC, 16-Leads, Body 9.9x3.9mm, Pitch 1.27mm, IPC High Density)
footprint SLAB-SOIC-16-NB_M (SOIC, 16-Leads, Body 9.9x3.9mm, Pitch 1.27mm, IPC Low Density)
part A pins: 1 PWM (in) "PWM input.", 3 VDDI (power) "Input-side power supply terminal; connect to a source of 4.5 to 5.5 V.", 4 GNDI (power) "Input-side ground terminal.", 5 DISABLE (in) "Device Disable. When high, this input unconditionally drives outputs VOA, VOB LOW. It is strongly recommended that this input be connected to external logic level to avoid erroneous operation due to capacitive noise coupling.", 6 DT (in) "Dead time programming input. The value of the resistor connected from DT to ground sets the dead time between output transitions of VOA and VOB. Defaults to 1 ns dead time when connected to VDDI or left open (see "3.8. (See Datasheet)", 8 VDDI (power) "Input-side power supply terminal; connect to a source of 4.5 to 5.5 V.", 9 GNDB (power) "Ground terminal for Driver B.", 10 VOB (out) "Driver B output (low-side driver).", 11 VDDB (power) "Driver B power supply voltage terminal; connect to a source of 6.5 to 24 V.", 14 GNDA (power) "Ground terminal for Driver A.", 15 VOA (out) "Driver A output (high-side driver).", 16 VDDA (power) "Driver A power supply voltage terminal; connect to a source of 6.5 to 24 V."
part B pins: 2 NC "No connection.", 7 NC "No connection.", 12 NC "No connection.", 13 NC "No connection."

## Si8231BD-B-IS
designator U?
0.5 A ISOdrivers, 6.5 to 24 V Driver Supply, 5 kVRMS Isolation Rating, -40 to 125 degC, 16-pin SOIC; Manufacturer: Silicon Labs; PartNumber: Si8231BD-B-IS; 10kV surge: FALSE; Input Supply: 4.5 to 5.5 V; Isolation Rating (Input-Output, kVrms): 5; Max. Prop. Delay (ns): 60; Overlap Protection & Dead Time Control: TRUE; UVLO Voltage: 8 V; DatasheetVersion: Rev. 1.4; PackageReference: SOIC-16-WB; PackageDescription: 16-Pin Wide Body Plastic Small Outline, Body 10.3 x 7.5 mm, Pitch 1.27 mm; Supplier 1: Digi-Key; Supplier Part Number 1: 336-1911-5-ND; Supplier 2: Mouser; Supplier Part Number 2: 634-SI8231BD-B-IS; Driver Supply: 6.5 to 24 V; Input VDD: 4.5 to 5.5 V; Sub-Family: ISOdrivers; Mounting Technology: Surface Mount; Code_JEDEC: MS-013; ComponentLink1Description: Manufacturer URL; ComponentLink1URL: http://www.silabs.com/; ComponentLink2Description: Datasheet; ComponentLink2URL: https://www.silabs.com/Support%20Documents/TechnicalDocs/Si823x.pdf; ComponentLink3Description: Package Specification; ComponentLink3URL: https://www.silabs.com/Support%20Documents/TechnicalDocs/Si823x.pdf
footprint SLAB-SOIC-16-WB_N (SOIC, 16-Leads, Body 10.3x7.5mm, Pitch 1.27mm, IPC Medium Density)
footprint SLAB-SOIC-16-WB_L (SOIC, 16-Leads, Body 10.3x7.5mm, Pitch 1.27mm, IPC High Density)
footprint SLAB-SOIC-16-WB_M (SOIC, 16-Leads, Body 10.3x7.5mm, Pitch 1.27mm, IPC Low Density)
part A pins: 1 PWM (in) "PWM input.", 3 VDDI (power) "Input-side power supply terminal; connect to a source of 4.5 to 5.5 V.", 4 GNDI (power) "Input-side ground terminal.", 5 DISABLE (in) "Device Disable. When high, this input unconditionally drives outputs VOA, VOB LOW. It is strongly recommended that this input be connected to external logic level to avoid erroneous operation due to capacitive noise coupling.", 6 DT (in) "Dead time programming input. The value of the resistor connected from DT to ground sets the dead time between output transitions of VOA and VOB. Defaults to 1 ns dead time when connected to VDDI or left open (see "3.8. (See Datasheet)", 8 VDDI (power) "Input-side power supply terminal; connect to a source of 4.5 to 5.5 V.", 9 GNDB (power) "Ground terminal for Driver B.", 10 VOB (out) "Driver B output (low-side driver).", 11 VDDB (power) "Driver B power supply voltage terminal; connect to a source of 6.5 to 24 V.", 14 GNDA (power) "Ground terminal for Driver A.", 15 VOA (out) "Driver A output (high-side driver).", 16 VDDA (power) "Driver A power supply voltage terminal; connect to a source of 6.5 to 24 V."
part B pins: 2 NC "No connection.", 7 NC "No connection.", 12 NC "No connection.", 13 NC "No connection."

## Si8232AB-B-IS
designator U?
0.5 A ISOdrivers, 6.5 to 24 V Driver Supply, 2.5 kVRMS Isolation Rating, -40 to 125 degC, 16-pin SOIC; Manufacturer: Silicon Labs; PartNumber: Si8232AB-B-IS; 10kV surge: FALSE; Input Supply: 4.5 to 5.5 V; Isolation Rating (Input-Output, kVrms): 2.5; Max. Prop. Delay (ns): 60; UVLO Voltage: 5 V; DatasheetVersion: Rev. 1.4; PackageReference: SOIC-16-WB; PackageDescription: 16-Pin Wide Body Plastic Small Outline, Body 10.3 x 7.5 mm, Pitch 1.27 mm; Supplier 1: Digi-Key; Supplier Part Number 1: SI8232AB-B-IS-ND; Supplier 2: Mouser; Supplier Part Number 2: 634-SI8232AB-B-IS; Driver Supply: 6.5 to 24 V; Input VDD: 4.5 to 5.5 V; Overlap Protection & Dead Time Control: FALSE; Sub-Family: ISOdrivers; Mounting Technology: Surface Mount; Code_JEDEC: MS-013; ComponentLink1Description: Manufacturer URL; ComponentLink1URL: http://www.silabs.com/; ComponentLink2Description: Datasheet; ComponentLink2URL: https://www.silabs.com/Support%20Documents/TechnicalDocs/Si823x.pdf; ComponentLink3Description: Package Specification; ComponentLink3URL: https://www.silabs.com/Support%20Documents/TechnicalDocs/Si823x.pdf
footprint SLAB-SOIC-16-WB_N (SOIC, 16-Leads, Body 10.3x7.5mm, Pitch 1.27mm, IPC Medium Density)
footprint SLAB-SOIC-16-WB_L (SOIC, 16-Leads, Body 10.3x7.5mm, Pitch 1.27mm, IPC High Density)
footprint SLAB-SOIC-16-WB_M (SOIC, 16-Leads, Body 10.3x7.5mm, Pitch 1.27mm, IPC Low Density)
part A pins: 1 VIA (in) "Non-inverting logic input terminal for Driver A.", 2 VIB (in) "Non-inverting logic input terminal for Driver B.", 3 VDDI (power) "Input-side power supply terminal; connect to a source of 4.5 to 5.5 V.", 4 GNDI (power) "Input-side ground terminal.", 5 DISABLE (in) "Device Disable. When high, this input unconditionally drives outputs VOA, VOB LOW. It is strongly recommended that this input be connected to external logic level to avoid erroneous operation due to capacitive noise coupling.", 8 VDDI (power) "Input-side power supply terminal; connect to a source of 4.5 to 5.5 V.", 9 GNDB (power) "Ground terminal for Driver B.", 10 VOB (out) "Driver B output", 11 VDDB (power) "Driver B power supply voltage terminal; connect to a source of 6.5 to 24 V.", 14 GNDA (power) "Ground terminal for Driver A.", 15 VOA (out) "Driver A output", 16 VDDA (power) "Driver A power supply voltage terminal; connect to a source of 6.5 to 24 V."
part B pins: 6 NC "No connection.", 7 NC "No connection.", 12 NC "No connection.", 13 NC "No connection."

## Si8232AB-B-IS1
designator U?
0.5 A ISOdrivers, 6.5 to 24 V Driver Supply, 2.5 kVRMS Isolation Rating, -40 to 125 degC, 16-pin SOIC; Manufacturer: Silicon Labs; PartNumber: Si8232AB-B-IS1; 10kV surge: FALSE; Input Supply: 4.5 to 5.5 V; Isolation Rating (Input-Output, kVrms): 2.5; Max. Prop. Delay (ns): 60; UVLO Voltage: 5 V; DatasheetVersion: Rev. 1.4; PackageReference: SOIC-16-NB; PackageDescription: 16-Pin Small-Outline Integrated Circuit, Body 9.9 x 3.9 mm, Pitch 1.27 mm; Supplier 1: Digi-Key; Supplier Part Number 1: SI8232AB-B-IS1-ND; Supplier 2: Mouser; Supplier Part Number 2: 634-SI8232AB-B-IS1; Driver Supply: 6.5 to 24 V; Input VDD: 4.5 to 5.5 V; Overlap Protection & Dead Time Control: FALSE; Sub-Family: ISOdrivers; Mounting Technology: Surface Mount; Code_JEDEC: MS-012; Code_IPC: J-STD-020; ComponentLink1Description: Manufacturer URL; ComponentLink1URL: http://www.silabs.com/; ComponentLink2Description: Datasheet; ComponentLink2URL: https://www.silabs.com/Support%20Documents/TechnicalDocs/Si823x.pdf; ComponentLink3Description: Package Specification; ComponentLink3URL: http://www.silabs.com/Support%20Documents/TechnicalDocs/si2401.pdf
footprint SLAB-SOIC-16-NB_N (SOIC, 16-Leads, Body 9.9x3.9mm, Pitch 1.27mm, IPC Medium Density)
footprint SLAB-SOIC-16-NB_L (SOIC, 16-Leads, Body 9.9x3.9mm, Pitch 1.27mm, IPC High Density)
footprint SLAB-SOIC-16-NB_M (SOIC, 16-Leads, Body 9.9x3.9mm, Pitch 1.27mm, IPC Low Density)
part A pins: 1 VIA (in) "Non-inverting logic input terminal for Driver A.", 2 VIB (in) "Non-inverting logic input terminal for Driver B.", 3 VDDI (power) "Input-side power supply terminal; connect to a source of 4.5 to 5.5 V.", 4 GNDI (power) "Input-side ground terminal.", 5 DISABLE (in) "Device Disable. When high, this input unconditionally drives outputs VOA, VOB LOW. It is strongly recommended that this input be connected to external logic level to avoid erroneous operation due to capacitive noise coupling.", 8 VDDI (power) "Input-side power supply terminal; connect to a source of 4.5 to 5.5 V.", 9 GNDB (power) "Ground terminal for Driver B.", 10 VOB (out) "Driver B output", 11 VDDB (power) "Driver B power supply voltage terminal; connect to a source of 6.5 to 24 V.", 14 GNDA (power) "Ground terminal for Driver A.", 15 VOA (out) "Driver A output", 16 VDDA (power) "Driver A power supply voltage terminal; connect to a source of 6.5 to 24 V."
part B pins: 6 NC "No connection.", 7 NC "No connection.", 12 NC "No connection.", 13 NC "No connection."

## Si8232AD-B-IS
designator U?
0.5 A ISOdrivers, 6.5 to 24 V Driver Supply, 5 kVRMS Isolation Rating, -40 to 125 degC, 16-pin SOIC; Manufacturer: Silicon Labs; PartNumber: Si8232AD-B-IS; 10kV surge: FALSE; Input Supply: 4.5 to 5.5 V; Isolation Rating (Input-Output, kVrms): 5; Max. Prop. Delay (ns): 60; UVLO Voltage: 5 V; DatasheetVersion: Rev. 1.4; PackageReference: SOIC-16-WB; PackageDescription: 16-Pin Wide Body Plastic Small Outline, Body 10.3 x 7.5 mm, Pitch 1.27 mm; Supplier 1: Digi-Key; Supplier Part Number 1: SI8232AD-B-IS-ND; Supplier 2: Mouser; Supplier Part Number 2: 634-SI8232AD-B-IS; Driver Supply: 6.5 to 24 V; Input VDD: 4.5 to 5.5 V; Overlap Protection & Dead Time Control: FALSE; Sub-Family: ISOdrivers; Mounting Technology: Surface Mount; Code_JEDEC: MS-013; ComponentLink1Description: Manufacturer URL; ComponentLink1URL: http://www.silabs.com/; ComponentLink2Description: Datasheet; ComponentLink2URL: https://www.silabs.com/Support%20Documents/TechnicalDocs/Si823x.pdf; ComponentLink3Description: Package Specification; ComponentLink3URL: https://www.silabs.com/Support%20Documents/TechnicalDocs/Si823x.pdf
footprint SLAB-SOIC-16-WB_N (SOIC, 16-Leads, Body 10.3x7.5mm, Pitch 1.27mm, IPC Medium Density)
footprint SLAB-SOIC-16-WB_L (SOIC, 16-Leads, Body 10.3x7.5mm, Pitch 1.27mm, IPC High Density)
footprint SLAB-SOIC-16-WB_M (SOIC, 16-Leads, Body 10.3x7.5mm, Pitch 1.27mm, IPC Low Density)
part A pins: 1 VIA (in) "Non-inverting logic input terminal for Driver A.", 2 VIB (in) "Non-inverting logic input terminal for Driver B.", 3 VDDI (power) "Input-side power supply terminal; connect to a source of 4.5 to 5.5 V.", 4 GNDI (power) "Input-side ground terminal.", 5 DISABLE (in) "Device Disable. When high, this input unconditionally drives outputs VOA, VOB LOW. It is strongly recommended that this input be connected to external logic level to avoid erroneous operation due to capacitive noise coupling.", 8 VDDI (power) "Input-side power supply terminal; connect to a source of 4.5 to 5.5 V.", 9 GNDB (power) "Ground terminal for Driver B.", 10 VOB (out) "Driver B output", 11 VDDB (power) "Driver B power supply voltage terminal; connect to a source of 6.5 to 24 V.", 14 GNDA (power) "Ground terminal for Driver A.", 15 VOA (out) "Driver A output", 16 VDDA (power) "Driver A power supply voltage terminal; connect to a source of 6.5 to 24 V."
part B pins: 6 NC "No connection.", 7 NC "No connection.", 12 NC "No connection.", 13 NC "No connection."

## Si8232BB-B-IS
designator U?
0.5 A ISOdrivers, 6.5 to 24 V Driver Supply, 2.5 kVRMS Isolation Rating, -40 to 125 degC, 16-pin SOIC; Manufacturer: Silicon Labs; PartNumber: Si8232BB-B-IS; 10kV surge: FALSE; Input Supply: 4.5 to 5.5 V; Isolation Rating (Input-Output, kVrms): 2.5; Max. Prop. Delay (ns): 60; UVLO Voltage: 8 V; DatasheetVersion: Rev. 1.4; PackageReference: SOIC-16-WB; PackageDescription: 16-Pin Wide Body Plastic Small Outline, Body 10.3 x 7.5 mm, Pitch 1.27 mm; Supplier 1: Digi-Key; Supplier Part Number 1: 336-1910-5-ND; Supplier 2: Mouser; Supplier Part Number 2: 634-SI8232BB-B-IS; Driver Supply: 6.5 to 24 V; Input VDD: 4.5 to 5.5 V; Overlap Protection & Dead Time Control: FALSE; Sub-Family: ISOdrivers; Mounting Technology: Surface Mount; Code_JEDEC: MS-013; ComponentLink1Description: Manufacturer URL; ComponentLink1URL: http://www.silabs.com/; ComponentLink2Description: Datasheet; ComponentLink2URL: https://www.silabs.com/Support%20Documents/TechnicalDocs/Si823x.pdf; ComponentLink3Description: Package Specification; ComponentLink3URL: https://www.silabs.com/Support%20Documents/TechnicalDocs/Si823x.pdf
footprint SLAB-SOIC-16-WB_N (SOIC, 16-Leads, Body 10.3x7.5mm, Pitch 1.27mm, IPC Medium Density)
footprint SLAB-SOIC-16-WB_L (SOIC, 16-Leads, Body 10.3x7.5mm, Pitch 1.27mm, IPC High Density)
footprint SLAB-SOIC-16-WB_M (SOIC, 16-Leads, Body 10.3x7.5mm, Pitch 1.27mm, IPC Low Density)
part A pins: 1 VIA (in) "Non-inverting logic input terminal for Driver A.", 2 VIB (in) "Non-inverting logic input terminal for Driver B.", 3 VDDI (power) "Input-side power supply terminal; connect to a source of 4.5 to 5.5 V.", 4 GNDI (power) "Input-side ground terminal.", 5 DISABLE (in) "Device Disable. When high, this input unconditionally drives outputs VOA, VOB LOW. It is strongly recommended that this input be connected to external logic level to avoid erroneous operation due to capacitive noise coupling.", 8 VDDI (power) "Input-side power supply terminal; connect to a source of 4.5 to 5.5 V.", 9 GNDB (power) "Ground terminal for Driver B.", 10 VOB (out) "Driver B output", 11 VDDB (power) "Driver B power supply voltage terminal; connect to a source of 6.5 to 24 V.", 14 GNDA (power) "Ground terminal for Driver A.", 15 VOA (out) "Driver A output", 16 VDDA (power) "Driver A power supply voltage terminal; connect to a source of 6.5 to 24 V."
part B pins: 6 NC "No connection.", 7 NC "No connection.", 12 NC "No connection.", 13 NC "No connection."